# Altium footprint library AltiumV15.PcbLib: 3 footprints
Each footprint in its own frame and in the unit in brackets; x right, y up, seen from the top. Pads: shape width x height; smd on the part's side, far side on the other; paste and mask are expansions set on the pad; w line width, h text height; cw(c..) or ccw(c..) is an arc to the next point about the centre after c.
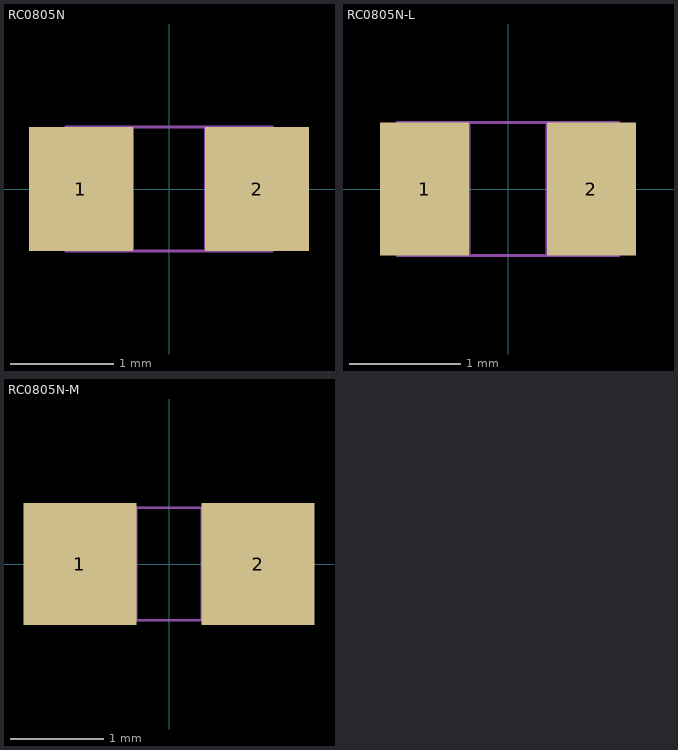
[diagram p0: the footprints below, top view; thin cyan lines are the x and y axes]

## RC0805N [mm]
pads (2):
  rect 1.006x1.2 smd: 1(-0.853,0) 2(0.853,0)
Top Layer keep-out:
  region: 
Mechanical 1:
  lines w0.025: -1,-0.6 -1,0.6 ; -1,-0.6 -0.35,-0.6 -0.35,0.6 -1,0.6 ; -1,-0.6 1,-0.6 ; -1,-0.6 -1,0.6 ; -1,0.6 1,0.6 ; 1,-0.6 0.35,-0.6 0.35,0.6 1,0.6 ; 1,-0.6 1,0.6 ; 1,-0.6 1,0.6

## RC0805N-L [mm]
pads (2):
  rect 0.802x1.2 smd: 1(-0.751,0) 2(0.751,0)
Top Layer keep-out:
  region: 
Mechanical 1:
  lines w0.025: -1,-0.6 -1,0.6 ; -1,-0.6 1,-0.6 ; -1,-0.6 -0.35,-0.6 -0.35,0.6 -1,0.6 ; -1,-0.6 -1,0.6 ; -1,0.6 1,0.6 ; 1,-0.6 1,0.6 ; 1,-0.6 1,0.6 ; 1,-0.6 0.35,-0.6 0.35,0.6 1,0.6

## RC0805N-M [mm]
pads (2):
  rect 1.209x1.302 smd: 1(-0.954,0) 2(0.954,0)
Top Layer keep-out:
  region: 
Mechanical 1:
  lines w0.025: -1,-0.6 -1,0.6 ; -1,-0.6 1,-0.6 ; -1,-0.6 -0.35,-0.6 -0.35,0.6 -1,0.6 ; -1,-0.6 -1,0.6 ; -1,0.6 1,0.6 ; 1,-0.6 1,0.6 ; 1,-0.6 1,0.6 ; 1,-0.6 0.35,-0.6 0.35,0.6 1,0.6